# EAGLE library part 687145182122 (library Eagle_FPC_CONNECTOR_AND_FFC_CAB (rev18c))
CONFPCI - 0.5 MM PITCH HORIZONTAL DUAL CONTACT, BACK FLIP ACTUATOR=>Code : ConFPC Characteristics INSULATOR: LCP FLAMABILITY RATING: UL94-V0 COLOUR: IVORY CONTACT MATERIAL: PHOSPHOR BRONZE CONTACT PLATING: 80 μ’’ MAT TIN OVER 50 μ’’ NICKEL CONTACT TYPE: STAMPED TAB MATERIAL: BRASS TAB PLATING: 80 μ’’ MAT TIN OVER 50 μ’’ NICKEL TAB TYPE: STAMPED ACTUATOR MATERIAL: PA9T ACTUATOR COLOUR: BLACK QUALITY CLASS: 20 MATING CYCLES PITCH: 0.50 MM PACKAGING:TAPE AND REEL COMPLIANCE: ROHS AND HALOGEN FREE OPERATING TEMPERATURE: -40°C UP TO +105°C ELECTRICAL CURRENT RATING: 0.5A WORKING VOLTAGE: 50 VAC WITHSTANDING VOLTAGE: 0.25 KVAC/min CONTATC RESISTANCE: 30 mOHM INSULATION RESISTANCE: >500 MΩ <http://katalog.we-online.de/media/images/v2/Family_WR-FPC_687186182122.jpg> 2016 (C) Wurth Elektronik
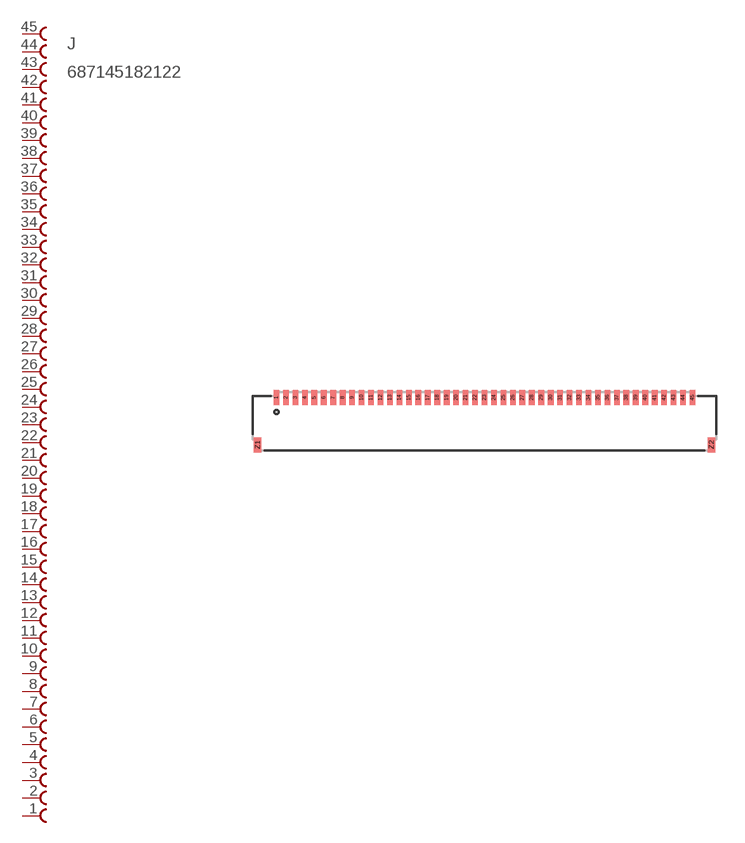
[diagram p145: symbol with the pads of 687145182122; footprint 687145182122]

Designator prefix J

## 687145182122  [687145182122]
1  45  pas
2  44  pas
3  43  pas
4  42  pas
5  41  pas
6  40  pas
7  39  pas
8  38  pas
9  37  pas
10  36  pas
11  35  pas
12  34  pas
13  33  pas
14  32  pas
15  31  pas
16  30  pas
17  29  pas
18  28  pas
19  27  pas
20  26  pas
21  25  pas
22  24  pas
23  23  pas
24  22  pas
25  21  pas
26  20  pas
27  19  pas
28  18  pas
29  17  pas
30  16  pas
31  15  pas
32  14  pas
33  13  pas
34  12  pas
35  11  pas
36  10  pas
37  9  pas
38  8  pas
39  7  pas
40  6  pas
41  5  pas
42  4  pas
43  3  pas
44  2  pas
45  1  pas

## Footprint 687145182122 (pad centres in mm)
smd 0.3 x 0.8: 1 -10.75,1.25; 2 -10.25,1.25; 3 -9.75,1.25; 4 -9.25,1.25; 5 -8.75,1.25; 6 -8.25,1.25; 7 -7.75,1.25; 8 -7.25,1.25; 9 -6.75,1.25; 10 -6.25,1.25; 11 -5.75,1.25; 12 -5.25,1.25; 13 -4.75,1.25; 14 -4.25,1.25; 15 -3.75,1.25; 16 -3.25,1.25; 17 -2.75,1.25; 18 -2.25,1.25; 19 -1.75,1.25; 20 -1.25,1.25; 21 -0.75,1.25; 22 -0.25,1.25; 23 0.25,1.25; 24 0.75,1.25; 25 1.25,1.25; 26 1.75,1.25; 27 2.25,1.25; 28 2.75,1.25; 29 3.25,1.25; 30 3.75,1.25; 31 4.25,1.25; 32 4.75,1.25; 33 5.25,1.25; 34 5.75,1.25; 35 6.25,1.25; 36 6.75,1.25; 37 7.25,1.25; 38 7.75,1.25; 39 8.25,1.25; 40 8.75,1.25; 41 9.25,1.25; 42 9.75,1.25; 43 10.25,1.25; 44 10.75,1.25; 45 11.25,1.25
smd 0.4 x 0.8: Z1 -11.75,-1.25; Z2 12.25,-1.25